# Altium integrated library Power_inductor.IntLib: 1 symbol
Pins are listed as number, name and electrical type; pins without a type are passive.

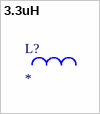
[diagram p0: symbol 3.3uH]

## 3.3uH
designator L?
Class: Inductors; ESKD: HP0602-3R3M2B ABC; Value: 3.3uH; Package: SMD0602
footprint 0602_Inductor
pins: 1, 2